# Altium footprint library pcb.PcbLib: 16 footprints
Each footprint in its own frame and in the unit in brackets; x right, y up, seen from the top. Pads: shape width x height; smd on the part's side, far side on the other; paste and mask are expansions set on the pad; w line width, h text height; cw(c..) or ccw(c..) is an arc to the next point about the centre after c.
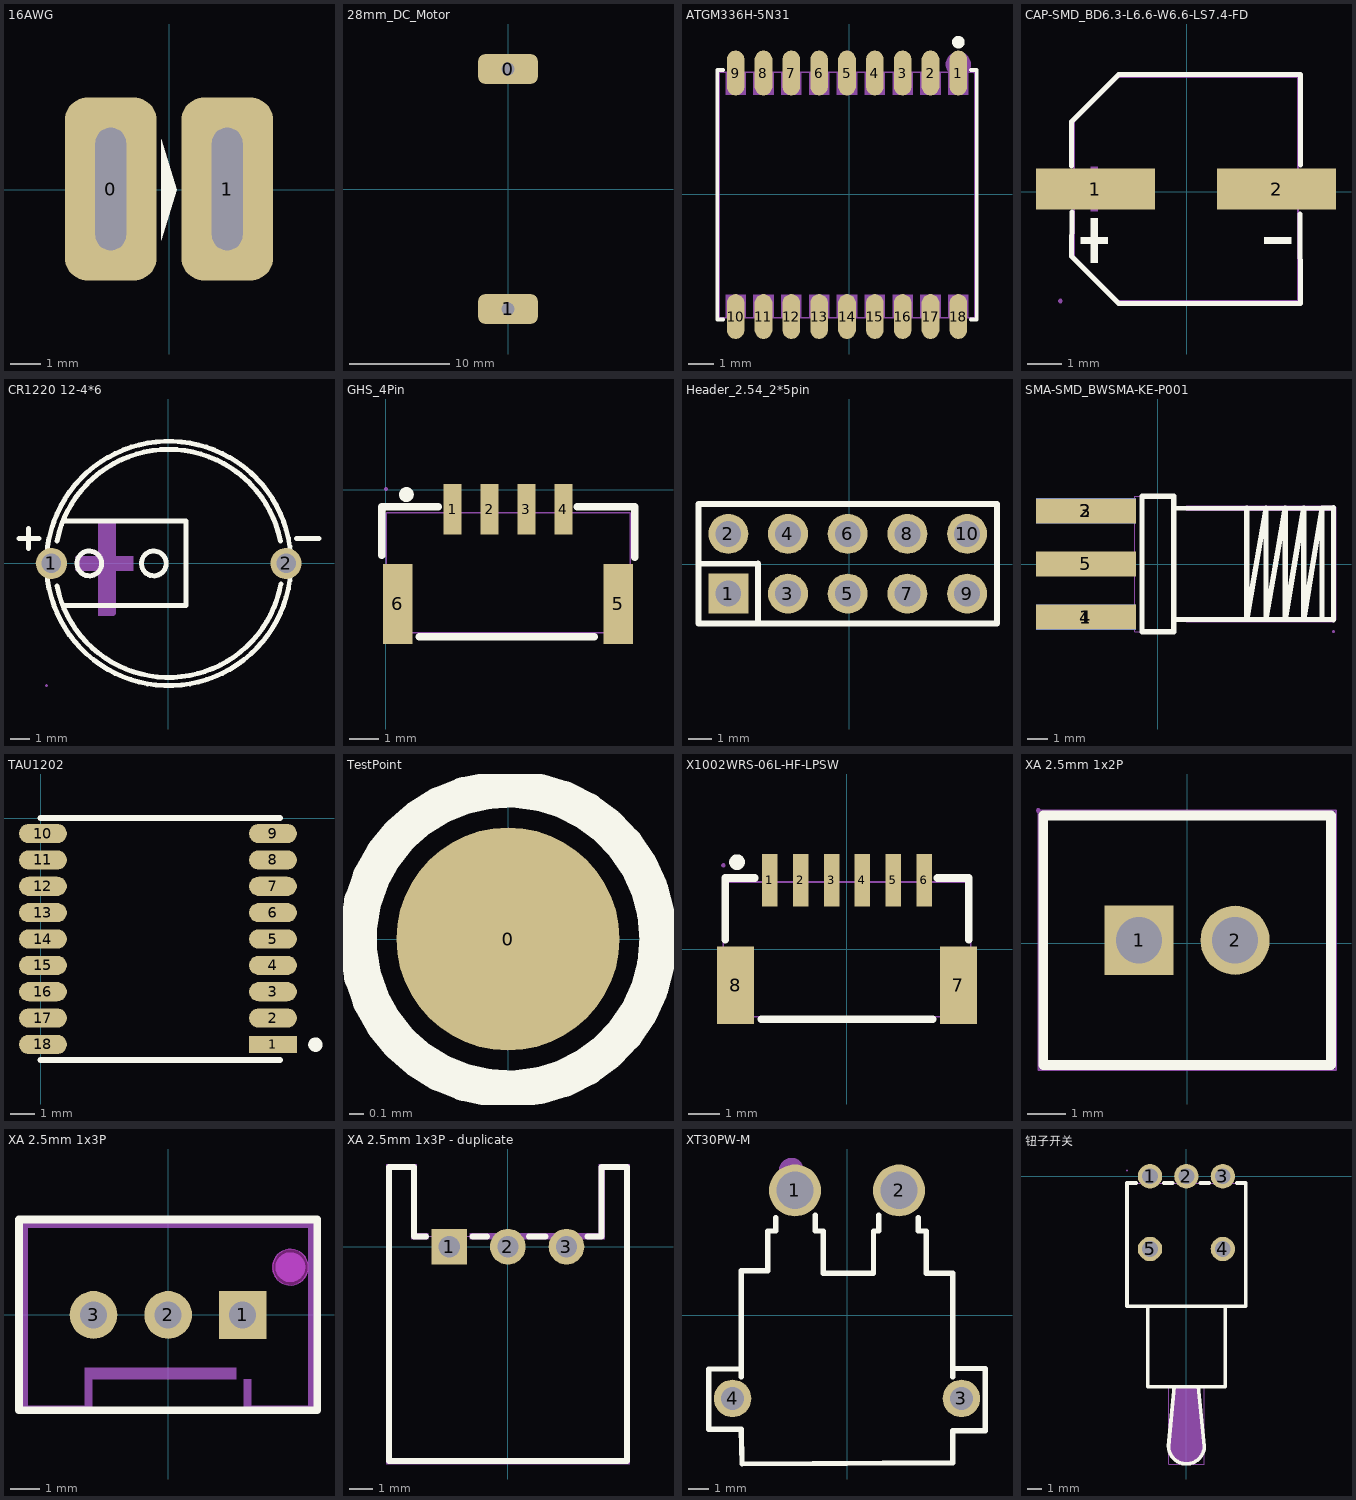
[diagram p0: the footprints below, top view; thin cyan lines are the x and y axes]

## 16AWG [mm]
pads (2):
  rrect50% 3x6 hole 4 slot 1 at 0 deg: 0(-1.905,0.025) 1(1.905,0.025)
Top Overlay:
  region: -0.254,1.651 -0.254,-1.651 0.254,0

## 28mm_DC_Motor [mm]
pads (2):
  rrect50% 6x3 hole 1.3 square: 0(0,12) 1(0,-12)
Mechanical 1:
  lines w0.013: 0,-13 -2.5,-13 -2.5,-11 0,-11 ; 0,-13 0,-11 ; 0,-13 2.5,-13 2.5,-11 0,-11 ; 0,-13 0,-11 ; 0,11 -2.5,11 -2.5,13 0,13 ; 0,11 0,13 ; 0,11 2.5,11 2.5,13 0,13 ; 0,11 0,13

## ATGM336H-5N31 [mm]
pads (18):
  oval 0.7x1.773 smd mask+0.051: 1(4.319,4.795) 2(3.219,4.795) 3(2.119,4.795) 4(1.019,4.795) 5(-0.081,4.795) 6(-1.181,4.795) 7(-2.281,4.795) 8(-3.381,4.795) 9(-4.481,4.795) 10(-4.481,-4.829) 11(-3.381,-4.829) 12(-2.281,-4.829) 13(-1.181,-4.829) 14(-0.081,-4.829) 15(1.019,-4.829) 16(2.119,-4.829) 17(3.219,-4.829) 18(4.319,-4.829)
Top Overlay:
  circle w0.25: c4.319,6.013 r0.125
  lines w0.152: -4.979,-4.943 -5.207,-4.943 -5.207,4.909 -4.979,4.909 ; 4.818,-4.943 5.045,-4.943 5.045,4.909 4.818,4.909
Mechanical 6:
  circle w0.5: c4.319,5.133 r0.25
Mechanical 15:
  region: 4.719,3.933 3.919,3.933 3.919,4.833 4.719,4.833
  region: 3.619,3.933 2.819,3.933 2.819,4.833 3.619,4.833
  region: 2.519,3.933 1.719,3.933 1.719,4.833 2.519,4.833
  region: 1.419,3.933 0.619,3.933 0.619,4.833 1.419,4.833
  region: 0.319,3.933 -0.481,3.933 -0.481,4.833 0.319,4.833
  region: -0.781,3.933 -1.581,3.933 -1.581,4.833 -0.781,4.833
  region: -1.881,3.933 -2.681,3.933 -2.681,4.833 -1.881,4.833
  region: -2.981,3.933 -3.781,3.933 -3.781,4.833 -2.981,4.833
  region: -4.081,3.933 -4.881,3.933 -4.881,4.833 -4.081,4.833
  region: -4.081,-4.867 -4.881,-4.867 -4.881,-3.967 -4.081,-3.967
  region: -2.981,-4.867 -3.781,-4.867 -3.781,-3.967 -2.981,-3.967
  region: -1.881,-4.867 -2.681,-4.867 -2.681,-3.967 -1.881,-3.967
  region: -0.781,-4.867 -1.581,-4.867 -1.581,-3.967 -0.781,-3.967
  region: 0.319,-4.867 -0.481,-4.867 -0.481,-3.967 0.319,-3.967
  region: 1.419,-4.867 0.619,-4.867 0.619,-3.967 1.419,-3.967
  region: 2.519,-4.867 1.719,-4.867 1.719,-3.967 2.519,-3.967
  region: 3.619,-4.867 2.819,-4.867 2.819,-3.967 3.619,-3.967
  region: 4.719,-4.867 3.919,-4.867 3.919,-3.967 4.719,-3.967
  region: 5.029,4.833 5.029,4.858 4.994,4.893 4.944,4.893 4.909,4.858 4.909,4.833 4.909,4.808 4.944,4.773 4.994,4.773 5.029,4.808
  lines w0.051: -5.131,-4.867 -5.131,4.833 4.969,4.833 4.969,-4.867 -5.131,-4.867
3D body "ATGM336H-5N31.step": height 2.3, standoff 0, extent -5.02,-4.86 5.08,4.86

## CAP-SMD_BD6.3-L6.6-W6.6-LS7.4-FD [mm]
pads (2):
  rect 3.5x1.199 smd mask+0.051: 1(-2.695,0.074) 2(2.644,0.074)
Top Overlay:
  region: 3.076,-1.346 3.076,-1.544 2.283,-1.544 2.283,-1.346
  region: -3.127,-1.346 -3.127,-1.544 -2.334,-1.544 -2.334,-1.346
  region: -2.83,-0.785 -2.83,-2.103 -2.631,-2.103 -2.631,-0.785
  lines w0.152: -3.401,0.759 -3.401,2.055 -2.007,3.449 3.35,3.449 3.345,0.782 ; -3.388,-0.612 -3.401,-1.908 -2.007,-3.302 3.35,-3.302 3.33,-0.665
Mechanical 6:
  region: 3.076,0.173 3.076,-0.025 2.283,-0.025 2.283,0.173
  region: -3.127,0.173 -3.127,-0.025 -2.334,-0.025 -2.334,0.173
  region: -2.83,0.734 -2.83,-0.587 -2.631,-0.587 -2.631,0.734
Mechanical 15:
  region: -3.665,-3.226 -3.665,-3.201 -3.701,-3.165 -3.751,-3.165 -3.787,-3.201 -3.787,-3.226 -3.787,-3.251 -3.751,-3.287 -3.701,-3.287 -3.665,-3.251
  region: -3.726,0.424 -1.077,0.424 -1.077,-0.277 -3.726,-0.277
  region: 1.026,0.424 3.675,0.424 3.675,-0.277 1.026,-0.277
  lines w0.051: -3.325,-1.908 -2.007,-3.226 3.274,-3.226 3.274,3.373 -2.007,3.373 -3.325,2.055 -3.325,-1.908

## CR1220 12-4*6 [mm]
pads (2):
  round 1.6 hole 1 mask+0.051: 1(-5.969,0) 2(6.031,0)
Top Overlay:
  circle w0.254: c0.031,0 r6.25
  circle w0.254: c-0.731,0 r0.635
  circle w0.254: c-4.033,0 r0.635
  lines w0.254: -7.625,1.27 -6.609,1.27 ; -7.132,0.758 -7.132,1.774 ; -5.684,-1.143 ccw(c0.031,0) 5.762,-1.061 ; -5.684,1.143 cw(c0.031,0) 5.746,1.143 ; -5.303,-2.159 -5.176,-2.159 0.92,-2.159 0.92,2.159 -5.303,2.159 ; 6.571,1.27 7.714,1.27
Mechanical 6:
  region: -4.715,0.375 -1.794,0.375 -1.794,-0.387 -4.715,-0.387
  region: -3.572,2.153 -2.683,2.153 -2.683,-2.546 -2.683,-2.571 -2.702,-2.618 -2.738,-2.654 -2.784,-2.673 -2.81,-2.673 -3.572,-2.673
Mechanical 15:
  region: -6.119,0.375 -5.819,0.375 -5.819,-0.375 -6.119,-0.375
  region: 5.881,0.375 6.181,0.375 6.181,-0.375 5.881,-0.375
  region: -6.159,-6.25 -6.159,-6.225 -6.194,-6.19 -6.244,-6.19 -6.279,-6.225 -6.279,-6.25 -6.279,-6.275 -6.244,-6.31 -6.194,-6.31 -6.159,-6.275
  lines w0.051: -6.219,0 ccw(c0.031,0) 0.031,-6.25 ccw(c0.031,0) 6.281,0 ccw(c0.031,0) 0.031,6.25 ccw(c0.031,0) -6.219,0
3D body "CR1220.step": height 2.2, standoff -4, extent -6.3,-6.238 6.3,6.238

## GHS_4Pin [mm]
pads (6):
  rect 0.6x1.7 smd paste+0 mask+0.051: 1(2.267,-0.658) 2(3.517,-0.658) 3(4.768,-0.658) 4(6.018,-0.658)
  rect 1x2.7 smd paste+0 mask+0.051: 5(7.868,-3.857) 6(0.418,-3.857)
Top Overlay:
  circle w0.25: c0.705,-0.158 r0.125
  lines w0.254: -0.127,-2.217 -0.127,-0.567 1.783,-0.567 ; 1.143,-4.967 7.063,-4.967 ; 6.483,-0.577 8.423,-0.577 8.423,-2.277
Mechanical 6:
  circle w0.25: c2.253,-1.127 r0.125
Mechanical 15:
  region: 0.268,-2.827 0.568,-2.827 0.568,-4.827 0.268,-4.827
  region: 7.718,-2.827 8.018,-2.827 8.018,-4.827 7.718,-4.827
  region: 5.913,0.023 6.113,0.023 6.113,-0.877 5.913,-0.877
  region: 4.668,0.023 4.868,0.023 4.868,-0.877 4.668,-0.877
  region: 3.417,0.023 3.617,0.023 3.617,-0.877 3.417,-0.877
  region: 2.167,0.023 2.367,0.023 2.367,-0.877 2.167,-0.877
  region: 0.083,0.023 0.083,0.047 0.048,0.083 -0.002,0.083 -0.037,0.047 -0.037,0.023 -0.037,-0.002 -0.002,-0.037 0.048,-0.037 0.083,-0.002
  lines w0.051: 0.023,-4.827 8.273,-4.827 8.273,-0.777 0.023,-0.777 0.023,-4.827
3D body "GHS_4Pin.step": height 4.26, standoff 0, extent 0.052,-5.235 8.302,-0.376

## Header_2.54_2*5pin [mm]
pads (10):
  rect 1.7x1.7 hole 1.1 paste+0 mask+0.051: 1(-5.147,-1.25)
  round 1.7 hole 1.1 paste+0 mask+0.051: 2(-5.147,1.29) 3(-2.607,-1.25) 4(-2.607,1.29) 5(-0.067,-1.25) 6(-0.067,1.29) 7(2.473,-1.25) 8(2.473,1.29) 9(5.013,-1.25) 10(5.013,1.29)
Top Overlay:
  lines w0.254: -6.417,0.02 -3.877,0.027 -3.877,-2.52 ; -6.417,-2.52 -6.417,2.56 6.283,2.56 6.283,-2.52 -6.417,-2.52
Mechanical 15:
  region: 4.693,-0.93 5.333,-0.93 5.333,-1.57 4.693,-1.57
  region: 4.693,1.61 5.333,1.61 5.333,0.97 4.693,0.97
  region: 2.153,-0.93 2.793,-0.93 2.793,-1.57 2.153,-1.57
  region: 2.153,1.61 2.793,1.61 2.793,0.97 2.153,0.97
  region: -0.387,-0.93 0.253,-0.93 0.253,-1.57 -0.387,-1.57
  region: -0.387,1.61 0.253,1.61 0.253,0.97 -0.387,0.97
  region: -2.927,-0.93 -2.287,-0.93 -2.287,-1.57 -2.927,-1.57
  region: -2.927,1.61 -2.287,1.61 -2.287,0.97 -2.927,0.97
  region: -5.467,-0.93 -4.827,-0.93 -4.827,-1.57 -5.467,-1.57
  region: -5.467,1.61 -4.827,1.61 -4.827,0.97 -5.467,0.97
  region: -6.357,-2.48 -6.357,-2.455 -6.392,-2.42 -6.442,-2.42 -6.477,-2.455 -6.477,-2.48 -6.477,-2.505 -6.442,-2.54 -6.392,-2.54 -6.357,-2.505
  lines w0.051: -6.417,-2.48 6.283,-2.48 6.283,2.52 -6.417,2.52 -6.417,-2.48
3D body "Header_2.54.STEP": height 8.5, standoff -3, extent -6.478,-2.54 6.224,2.54

## SMA-SMD_BWSMA-KE-P001 [mm]
pads (5):
  rect 4.8x1.2 smd mask+0.051: 1(-3.442,-2.542) 2(-3.442,2.558) 5(-3.442,0.008)
  rect 4.8x1.2 smd far side mask+0.051: 3(-3.442,2.558) 4(-3.442,-2.542)
Top Overlay:
  lines w0.254: -0.748,-3.242 0.776,-3.242 0.776,3.258 -0.748,3.258 -0.748,-3.167 ; 0.776,-2.659 7.903,-2.659 ; 0.776,2.677 7.903,2.697 ; 4.293,2.697 4.293,-2.659 5.218,2.697 5.218,-2.659 6.144,2.697 6.144,-2.659 7.033,2.697 7.033,-2.659 7.903,2.697 ; 8.458,-2.672 8.458,2.708 8.447,2.697 7.903,2.697 ; 8.458,-2.659 7.903,-2.659 ; 7.903,-2.659 7.903,2.697
Mechanical 6:
  region: 1.388,2.818 1.388,2.578 8.338,2.578 8.338,-2.542 1.388,-2.542 1.388,-2.782 8.458,-2.782 8.578,-2.662 8.578,2.728 8.488,2.818
Mechanical 15:
  region: -5.042,-2.092 -1.042,-2.092 -1.042,-2.992 -5.042,-2.992
  region: -5.042,3.008 -1.042,3.008 -1.042,2.108 -5.042,2.108
  region: -5.042,-2.092 -1.042,-2.092 -1.042,-2.992 -5.042,-2.992
  region: -5.042,0.458 -1.042,0.458 -1.042,-0.442 -5.042,-0.442
  region: -5.042,3.008 -1.042,3.008 -1.042,2.108 -5.042,2.108
  region: 8.518,-3.242 8.518,-3.217 8.483,-3.182 8.433,-3.182 8.398,-3.217 8.398,-3.242 8.398,-3.267 8.433,-3.302 8.483,-3.302 8.518,-3.267
  lines w0.051: -1.092,-3.242 0.776,-3.242 0.776,3.258 -1.092,3.258 -1.092,-3.242
3D body "SMA-SMD_BWSMA-KE-P001.step": height 3.7, standoff -2.8, extent -5.753,-3.251 7.747,3.25

## TAU1202 [mm]
pads (18):
  rect 2x0.7 smd: 1(9.7,-9.45)
  oval 2x0.8 smd: 2(9.7,-8.35) 3(9.7,-7.25) 4(9.7,-6.15) 5(9.7,-5.05) 6(9.7,-3.95) 7(9.7,-2.85) 8(9.7,-1.75) 9(9.7,-0.65) 10(0.1,-0.65) 11(0.1,-1.75) 12(0.1,-2.85) 13(0.1,-3.95) 14(0.1,-5.05) 15(0.1,-6.15) 16(0.1,-7.25) 17(0.1,-8.35) 18(0.1,-9.45)
Top Overlay:
  circle w0.3: c11.471,-9.46 r0.15
  lines w0.254: 0,-10.1 10,-10.1 ; 0,0 10,0
3D body "ATGM336H-5N31.step": height 2.3, standoff 0, extent 0.22,-10.13 9.94,-0.03

## TestPoint [mil]
pads (1):
  round 60 smd: 0(0,0)
Top Overlay:
  circle w10: c0,0 r40.31

## X1002WRS-06L-HF-LPSW [mm]
pads (8):
  rect 0.5x1.7 smd paste+0 mask+0.05: 1(-2.491,2.237) 2(-1.491,2.237) 3(-0.491,2.237) 4(0.509,2.237) 5(1.509,2.237) 6(2.509,2.237)
  rect 1.2x2.5 smd paste+0 mask+0.05: 7(3.609,-1.163) 8(-3.591,-1.163)
Top Overlay:
  circle w0.254: c-3.547,2.823 r0.127
  lines w0.254: -3.928,0.318 -3.928,2.315 -2.972,2.315 ; -2.76,-2.257 2.778,-2.257 ; 2.93,2.315 3.946,2.315 3.946,0.318
Mechanical 15:
  region: -3.931,2.719 -3.931,2.744 -3.966,2.779 -4.016,2.779 -4.051,2.744 -4.051,2.719 -4.051,2.694 -4.016,2.659 -3.966,2.659 -3.931,2.694 -3.931,2.719
  region: -2.591,2.719 -2.391,2.719 -2.391,1.719 -2.591,1.719
  region: -1.591,2.719 -1.391,2.719 -1.391,1.719 -1.591,1.719
  region: -0.591,2.719 -0.391,2.719 -0.391,1.719 -0.591,1.719
  region: 0.409,2.719 0.609,2.719 0.609,1.719 0.409,1.719
  region: 1.409,2.719 1.609,2.719 1.609,1.719 1.409,1.719
  region: 2.409,2.719 2.609,2.719 2.609,1.719 2.409,1.719
  region: -3.691,-0.463 -3.491,-0.463 -3.491,-1.863 -3.691,-1.863
  region: 3.509,-0.463 3.709,-0.463 3.709,-1.863 3.509,-1.863
  lines w0.051: -3.991,-2.181 -3.991,2.179 4.009,2.179 4.009,-2.181 -3.991,-2.181
3D body "X1002WRS-06L-HF-LPSW.step": height 3.65, standoff 0, extent -4,-2.7 4.001,2.2

## XA 2.5mm 1x2P [mm]
pads (2):
  rect 1.8x1.8 hole 1.2 paste+0 mask+0.051: 1(-1.252,0.072)
  round 1.8 hole 1.2 paste+0 mask+0.051: 2(1.248,0.072)
Top Overlay:
  lines w0.254: -3.75,-3.175 -3.75,3.325 -0.001,3.325 3.751,3.325 3.751,-3.175 -3.75,-3.175
Mechanical 15:
  region: -3.817,3.452 -3.817,3.477 -3.852,3.512 -3.902,3.512 -3.937,3.477 -3.937,3.452 -3.937,3.427 -3.902,3.392 -3.852,3.392 -3.817,3.427
  region: -0.752,0.072 -0.752,0.172 -0.828,0.356 -0.969,0.496 -1.152,0.572 -1.351,0.572 -1.535,0.496 -1.676,0.356 -1.752,0.172 -1.752,0.072 -1.752,-0.027 -1.676,-0.211 -1.535,-0.351 -1.351,-0.428 -1.152,-0.428 -0.969,-0.351 -0.828,-0.211 -0.752,-0.027
  region: 1.748,0.072 1.748,0.172 1.672,0.356 1.531,0.496 1.348,0.572 1.149,0.572 0.965,0.496 0.824,0.356 0.748,0.172 0.748,0.072 0.748,-0.027 0.824,-0.211 0.965,-0.351 1.149,-0.428 1.348,-0.428 1.531,-0.351 1.672,-0.211 1.748,-0.027
  lines w0.051: -3.877,-3.302 -3.877,3.452 3.878,3.452 3.878,-3.302 -3.877,-3.302
3D body "XA 2.5mm 1x2P.step": height 8.8, standoff -3.5, extent -3.878,-3.098 3.624,3.302

## XA 2.5mm 1x3P [mm]
pads (3):
  rect 1.6x1.6 hole 0.9 paste+0 mask+0.051: 1(2.5,0)
  round 1.6 hole 0.9 paste+0 mask+0.051: 2(0,0) 3(-2.5,0)
Top Overlay:
  lines w0.254: -5,-3.2 5,-3.2 5,3.2 -5,3.2 -5,-3.2
Keep-Out Layer:
  board cut-out: 4.7,1.6 4.7,1.719 4.609,1.94 4.44,2.109 4.22,2.2 3.981,2.2 3.76,2.109 3.592,1.94 3.5,1.719 3.5,1.6 3.5,1.481 3.592,1.26 3.76,1.091 3.981,1 4.22,1 4.44,1.091 4.609,1.26 4.7,1.481
Mechanical 1:
  circle w0.005: c4.1,1.6 r0.6
Mechanical 6:
  circle w0.5: c4.1,1.6 r0.25
  region: 2.54,-2.159 2.54,-3.2 5,-3.2 5,3.2 -5,3.2 -5,-3.2 -2.54,-3.2 -2.54,-2.159 2.286,-2.159 2.286,-1.905 2.286,-1.778 2.159,-1.778 -2.794,-1.778 -2.794,-3.048 -4.699,-3.048 -4.699,2.921 4.699,2.921 4.699,-3.048 2.794,-3.048 2.794,-2.159
Mechanical 15:
  region: -2.2,0 -2.2,0.06 -2.246,0.17 -2.33,0.254 -2.44,0.3 -2.56,0.3 -2.67,0.254 -2.754,0.17 -2.8,0.06 -2.8,0 -2.8,-0.06 -2.754,-0.17 -2.67,-0.254 -2.56,-0.3 -2.44,-0.3 -2.33,-0.254 -2.246,-0.17 -2.2,-0.06
  region: 0.3,0 0.3,0.06 0.255,0.17 0.17,0.254 0.06,0.3 -0.06,0.3 -0.17,0.254 -0.254,0.17 -0.3,0.06 -0.3,0 -0.3,-0.06 -0.254,-0.17 -0.17,-0.254 -0.06,-0.3 0.06,-0.3 0.17,-0.254 0.255,-0.17 0.3,-0.06
  region: 2.8,0 2.8,0.06 2.754,0.17 2.67,0.254 2.56,0.3 2.44,0.3 2.33,0.254 2.246,0.17 2.2,0.06 2.2,0 2.2,-0.06 2.246,-0.17 2.33,-0.254 2.44,-0.3 2.56,-0.3 2.67,-0.254 2.754,-0.17 2.8,-0.06
  region: 5.06,3.2 5.06,3.225 5.025,3.26 4.975,3.26 4.94,3.225 4.94,3.2 4.94,3.175 4.975,3.14 5.025,3.14 5.06,3.175
  lines w0.051: -5,-3.2 -5,3.2 5,3.2 5,-3.2 -5,-3.2
3D body "XA 2.5mm 1x3P.step": height 8.7, standoff -3.5, extent -5.001,-3.327 5,3.073

## XA 2.5mm 1x3P - duplicate [mil]
pads (3):
  rect 60x60 hole 35.43 mask+2: 1(-98.43,0)
  round 60 hole 35.43 mask+2: 2(0,0) 3(98.42,0)
Top Overlay:
  lines w10: -137.53,17.32 -157.49,17.32 -157.49,133.86 -200,133.86 -200,0 -200,-360 200,-360 200,0 200,133.86 ; -59.33,17.32 -35.04,17.32 ; 35.04,17.32 63.38,17.32 ; 133.46,17.32 157.47,17.32 157.47,133.86 196.84,133.86
Mechanical 6:
  region: -133.47,22.44 -133.47,12.21 -162.21,12.21 -162.21,129.13 -195.28,129.13 -195.28,-355.12 195.27,-355.12 195.27,129.13 162.59,129.13 162.59,12.21 -64.18,12.21 -64.18,22.44 152.75,22.44 152.75,138.19 152.36,138.58 204.72,138.58 204.72,-364.57 205.11,-364.96 -204.73,-364.96 -204.73,138.98 -153.15,138.98 -153.15,22.44
Mechanical 15:
  region: -194.49,-362.2 -194.49,-361.23 -195.88,-359.84 -197.83,-359.84 -199.22,-361.23 -199.22,-362.2 -199.22,-363.18 -197.83,-364.57 -195.88,-364.57 -194.49,-363.18
  region: -86.62,0 -86.62,2.35 -88.42,6.69 -91.74,10.01 -96.08,11.81 -100.78,11.81 -105.12,10.01 -108.44,6.69 -110.24,2.35 -110.24,0 -110.24,-2.35 -108.44,-6.69 -105.12,-10.01 -100.78,-11.81 -96.08,-11.81 -91.74,-10.01 -88.42,-6.69 -86.62,-2.35
  region: 11.81,0 11.81,2.35 10.01,6.69 6.69,10.01 2.35,11.81 -2.35,11.81 -6.69,10.01 -10.01,6.69 -11.81,2.35 -11.81,0 -11.81,-2.35 -10.01,-6.69 -6.69,-10.01 -2.35,-11.81 2.35,-11.81 6.69,-10.01 10.01,-6.69 11.81,-2.35
  region: 110.23,0 110.23,2.35 108.43,6.69 105.11,10.01 100.77,11.81 96.07,11.81 91.73,10.01 88.41,6.69 86.61,2.35 86.61,0 86.61,-2.35 88.41,-6.69 91.73,-10.01 96.07,-11.81 100.77,-11.81 105.11,-10.01 108.43,-6.69 110.23,-2.35
  lines w2: -196.85,-362.2 -196.85,133.86 -157.49,134.25 -157.49,17.32 157.47,17.32 157.47,133.86 196.85,133.86 196.85,-362.2 -196.85,-362.2
3D body "XA 2.5mm 1x3P 卧插.step": height 260, standoff -121.89, extent -199.61,-361.02 199.65,128.98

## XT30PW-M [mm]
pads (4):
  round 2.5 hole 1.8: 1(-2.5,6.004) 2(2.5,6.004)
  round 1.8 hole 1.1: 3(5.5,-3.996) 4(-5.5,-3.996)
Top Overlay:
  lines w0.254: -5.08,-5.477 -5.05,-7.146 5.08,-7.087 5.08,-5.546 6.65,-5.546 6.65,-2.556 5.08,-2.556 ; -5.08,-5.477 -6.65,-5.477 -6.65,-2.581 -5.08,-2.581 ; -5.08,-2.946 -5.08,1.051 -5.08,2.147 -3.81,2.147 -3.81,4.052 -3.429,4.052 -3.429,4.687 ; -1.524,4.814 -1.524,4.052 -1.143,4.052 -1.143,2.02 1.27,2.02 1.27,4.052 1.524,4.052 1.524,4.814 ; 3.429,4.687 3.429,4.052 3.81,4.052 3.81,2.02 5.08,2.02 5.08,1.051 5.08,-2.946
Mechanical 15:
  circle w0.6: c-2.667,6.973 r0.3
3D body "Amass_XT30PW-M_pcb solder.stp": height 5.17, standoff -3.28, extent -6.65,-6.968 6.65,6.982

## 钮子开关 [mm]
pads (5):
  round 1.7 hole 1.1 paste+0 mask+0.051: 1(-2.54,0) 2(0,0) 3(2.54,0) 4(2.54,-5.08) 5(-2.54,-5.08)
Top Overlay:
  lines w0.254: -3.508,-0.48 -4.15,-0.48 -4.15,-9.08 4.15,-9.08 4.15,-0.48 3.508,-0.48 ; -2.7,-9.08 -2.7,-14.68 2.7,-14.68 2.7,-9.08 ; -1.572,-0.48 -0.968,-0.48 ; -0.838,-14.68 -1.25,-18.832 ccw(c0,-18.826) 1.25,-18.831 0.832,-14.68 ; 0.968,-0.48 1.572,-0.48
Mechanical 6:
  region: -1.249,-18.832 -1.249,-18.996 -1.162,-19.312 -0.997,-19.596 -0.765,-19.827 -0.48,-19.991 -0.163,-20.075 0.165,-20.075 0.482,-19.99 0.766,-19.827 0.999,-19.595 1.164,-19.311 1.25,-18.995 1.25,-18.831 0.86,-14.67 -0.81,-14.65
Mechanical 15:
  region: -4.09,0.4 -4.09,0.425 -4.125,0.46 -4.175,0.46 -4.21,0.425 -4.21,0.4 -4.21,0.375 -4.175,0.34 -4.125,0.34 -4.09,0.375
  region: -2.79,-4.88 -2.29,-4.88 -2.29,-5.28 -2.79,-5.28
  region: 2.29,-4.88 2.79,-4.88 2.79,-5.28 2.29,-5.28
  region: 2.29,0.4 2.79,0.4 2.79,-0.4 2.29,-0.4
  region: -0.25,0.4 0.25,0.4 0.25,-0.4 -0.25,-0.4
  region: -2.79,0.4 -2.29,0.4 -2.29,-0.4 -2.79,-0.4
  region: 2.79,0.4 2.29,0.4 2.29,-0.49 2.79,-0.49
  region: 0.25,0.4 -0.25,0.4 -0.25,-0.49 0.25,-0.49
  region: -2.29,0.4 -2.79,0.4 -2.79,-0.49 -2.29,-0.49
  lines w0.051: -4.15,-9.08 -2.7,-9.08 -2.7,-14.68 -1.25,-14.68 -1.25,-20.08 1.25,-20.08 1.25,-14.68 2.7,-14.68 2.7,-9.08 4.15,-9.08 4.15,-0.48 -4.15,-0.48 -4.15,-9.08
3D body "钮子开关.STEP": height 6.11, standoff -3.2, extent -4.15,-20.138 4.15,0.762